# Altium schematic symbol library Schlib1.SchLib: 8 symbols
Pins are listed as number, name and electrical type; pins without a type are passive.

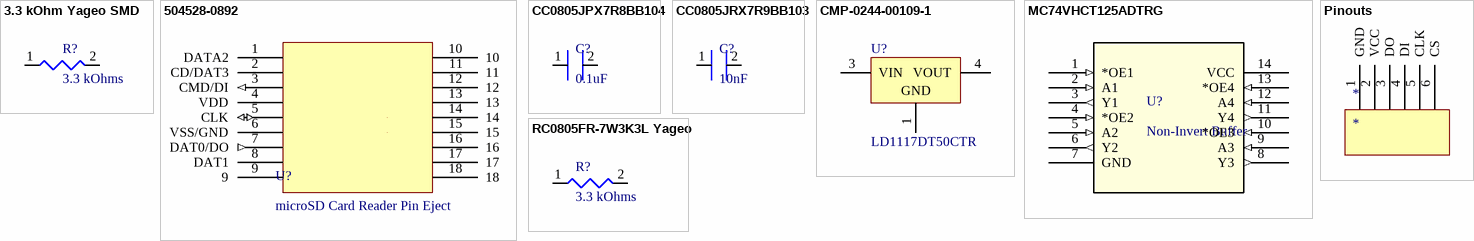
[diagram p0: symbols 3.3 kOhm Yageo SMD to RC0805FR-7W3K3L Yageo]

## 3.3 kOhm Yageo SMD
designator R?, comment 3.3 kOhms
3.3 kOhms ±1% 1W Chip Resistor 2512 (6432 Metric) Moisture Resistant Thick Film; Manufacturer: Yageo; Manufacturer Part Number: RC2512FK-073K3L; Value: 3.3kR; Voltage Rating: 200V; Temperature Coefficient: 100ppm/°C; Supplier 1: Digi-Key; RoHS: Yes; Category: Chip SMD Resistors; Stock 1: 6193; Pricing 1: 1=0.41000, 10=0.29400, 100=0.11740, 1000=0.05786 (USD); Case/Package: 2512; Case Code (Imperial): 2512; Case Code (Metric): 6432; Contact Plating: Tin,Lead; Min Operating Temperature: -55°C; Max Operating Temperature: 155°C; Tolerance: 1%; Power Rating: 1W; Packaging: Tape and Reel; Resistor Type: Thick Film; Number of Terminations: 2; Termination: SMD/SMT; Max Power Dissipation: 1W; Features: Moisture Resistant; Series: RC; Resistance Tolerance: 1%; Construction: Rectangular; Length: 0.25inch; Width: 3.1mm; Height: 0.026inch; Depth: 3.1mm; Radiation Hardening: No; Military Standard: Not; RoHS Compliant: Yes; ComponentLink1URL: https://datasheet.ciiva.com/7671/638316-7671990.pdf?src-supplier=Element14; ComponentLink1Description: https://datasheet.ciiva.com/7671/638316-7671990.pdf?src-supplier=Element14; ComponentLink2URL: https://datasheet.ciiva.com/7671/638316-7671991.pdf?src-supplier=Element14; ComponentLink2Description: https://datasheet.ciiva.com/7671/638316-7671991.pdf?src-supplier=Element14; ComponentLink3URL: https://datasheet.ciiva.com/12575/pyu-rc2512-51-rohs-l-4-12575433.pdf?src-supplier=Mouser; ComponentLink3Description: https://datasheet.ciiva.com/12575/pyu-rc2512-51-rohs-l-4-12575433.pdf?src-supplier=Mouser; Supplier Part Number 1: 13-RC2512FK-073K3LCT-ND
footprint 3.3 kOhm Yageo SMD
pins: 1, 2

## 504528-0892
designator U?, comment microSD Card Reader Pin Eject
Manufacturer: Molex; Manufacturer Part Number: 504528-0892-CUT-TAPE; Supplier: Newark; Supplier Part Number: 90AJ3843; RoHS: No; Pricing: 1=2.82, 10=2.58, 25=2.42, 50=2.26, 100=2.11, 250=1.92 (USD)
pins: 1 DATA2 "NC", 2 CD/DAT3 "CS", 3 CMD/DI (in) "DI", 4 VDD (power), 5 CLK (io) "SCLK", 6 VSS/GND (power), 7 DAT0/DO (out) "DO", 8 DAT1 "NC", 9 "Mounting", 10 "Mounting", 11 "Mounting", 12 "Mounting", 13 "Mounting", 14 "Mounting", 15 "Mounting", 16 "Mounting", 17 "Mounting", 18 "Mounting"

## CC0805JPX7R8BB104
designator C?, comment 0.1uF
Capacitor Multilayer Ceramic MLCC - SMD/SMT 25 V 0.1uF X7R 0805 5%; Manufacturer: Yageo; Manufacturer Part Number: CC0805JPX7R8BB104; Supplier 1: Mouser; RoHS: Yes; Category: Ceramic Capacitors; Stock 1: 164887; Pricing 1: 1=0.14000, 10=0.09400, 50=0.09400, 100=0.04800, 1000=0.02900, 10000=0.02300 (USD); RoHS Compliant: Yes; Supplier Part Number 1: 603-CC0805JPX7R8BB10
footprint CAPC2012X14N_1_35mm_HEIGHT (Chip Capacitor, 2-Leads, Body 2.00x1.25mm, IPC Medium Density)
pins: 1, 2

## CC0805JRX7R9BB103
designator C?, comment 10nF
Capacitor Multilayer Ceramic MLCC - SMD/SMT 50V 10nF X7R 0805 5%; Manufacturer: Yageo; Manufacturer Part Number: CC0805JRX7R9BB103; Dissipation Factor: 2.5%; Insulation Resistance: 10GR; Supplier 1: Mouser; RoHS: Yes; Category: Ceramic Capacitors; Stock 1: 102180; Pricing 1: 1=0.12000, 10=0.05000, 50=0.05000, 100=0.04100, 1000=0.02400, 10000=0.01700 (USD); Mounting Technology: Surface Mount; Case/Package: 0805; Pins: 2; Case Code (Imperial): 0805; Case Code (Metric): 2012; Min Operating Temperature: -55°C; Max Operating Temperature: 125°C; Voltage Rating (DC): 50V; Tolerance: 5%; Packaging: Tape and Reel; Value: 10nF; Voltage Rating: 50V; Package Quantity: 4000; Dielectric: X7R; Termination: SMD/SMT; Resistor Type: Ceramic; Series: CC; Construction: Flat; Length: 2mm; Width: 0.049inch; Height: 0.6mm; Thickness: 0.071inch; Depth: 1.25mm; Radiation Hardening: No; Lead Free: Lead Free; Halogen Free: Halogen Free; RoHS Compliant: Yes; ComponentLink1URL: https://datasheet.ciiva.com/26862/getdatasheetpartid-251801-26862952.pdf?src-supplier=Verical; ComponentLink1Description: https://datasheet.ciiva.com/26862/getdatasheetpartid-251801-26862952.pdf?src-supplier=Verical; ComponentLink2URL: https://datasheet.ciiva.com/11583/upy-gphc-x7r-6-3v-to-50v-8-11583532.pdf?src-supplier=Avnet; ComponentLink2Description: https://datasheet.ciiva.com/11583/upy-gphc-x7r-6-3v-to-50v-8-11583532.pdf?src-supplier=Avnet; ComponentLink3URL: https://datasheet.ciiva.com/13385/upy-gphc-x7r-6-3v-to-50v-8-13385902.pdf?src-supplier=Mouser; ComponentLink3Description: https://datasheet.ciiva.com/13385/upy-gphc-x7r-6-3v-to-50v-8-13385902.pdf?src-supplier=Mouser; Supplier Part Number 1: 603-CC805JRX7R9BB103
footprint CAPC2012X07N_06mmHEIGHT (Chip Capacitor, 2-Leads, Body 2.00x1.25mm, IPC Medium Density)
pins: 1, 2

## CMP-0244-00109-1
designator U?, comment LD1117DT50CTR
Fixed Low Drop Positive Voltage Regulator, 5V, 3-Pin DPAK, Tape and Reel; ComponentLink2URL: http://www.st.com/internet/com/TECHNICAL_RESOURCES/TECHNICAL_LITERATURE/DATASHEET/CD00000544.pdf; ComponentLink1URL: http://www.st.com; PackageReference: TO-252; DatasheetVersion: 1/11/2011; ComponentLink1Description: Manufacturer URL; PackageVersion: 2011; ComponentLink2Description: Datasheet; PackageDescription: 3-Pin Transistor Outline Package 2.28 mm Pitch, 9.7 mm Lead Span (DPAK)
footprint TO-252_M (D-PAK, 4-Leads, Body 6.1x6.5mm, Pitch 2.28mm, Lead Span 9.7mm, IPC Low Density)
footprint TO-252_N (D-PAK, 4-Leads, Body 6.1x6.5mm, Pitch 2.28mm, Lead Span 9.7mm, IPC Medium Density)
footprint TO-252_L (D-PAK, 4-Leads, Body 6.1x6.5mm, Pitch 2.28mm, Lead Span 9.7mm, IPC High Density)
pins: 1 GND (power), 3 VIN (power), 4 VOUT (power)

## MC74VHCT125ADTRG
designator U?, comment Non-Invert Buffer
Bus Driver, AHCT/VHCT Series, 4-Func, 1-Bit, True Output, CMOS, PDSO14; Manufacturer: ON Semiconductor; Manufacturer Part Number: MC74VHCT125ADTRG; Package Body Material: Plastic; Control Type: ENABLE LOW; Load Capacitance (CL): 50pF; Max I(ol): 8mA; Number of Bits: 1; Channels: 4; Number of Ports: 2; Output Characteristics: 3-STATE; Package Equivalence Code: TSSOP14,.25; Power Supplies: 5V; Power Supply Current-Max (ICC): 1.65mA; Prop. Delay@Nom-Sup: 10.5ns; Propagation Delay (tpd): 16ns; Max Supply Voltage: 5.5V; Min Supply Voltage: 4.5V; Time @ Peak Reflow Temperature-Max (s): 40s; Qualification Status: Not Qualified; Supplier: Digi-Key; Supplier Part Number: MC74VHCT125ADTRGOSCT-ND; RoHS: Yes; Category: Amplifiers - Op Amps, Buffer, Instrumentation; Stock: 452; Pricing: 1=0.63, 10=0.544, 25=0.5072, 100=0.3768, 250=0.31884, 500=0.30436, 1000=0.22465 (USD); Case/Package: TSSOP; Pins: 14; Package Shape: Rectangular; Terminal Finish: Nickel; Min Operating Temperature: -55°C; Max Operating Temperature: 125°C; JESD-609 Code: e4; Output Polarity: True; JESD-30 Code: R-PDSO-G14; Logic Type: BUS DRIVER; Moisture Sensitivity Level: 1; Package Style: SMALL OUTLINE, THIN PROFILE, SHRINK PITCHMeter; Packaging: Tape and Reel; Peak Reflow Temperature (Cel): 260°C; Nominal Supply Voltage: 5V; Surface Mount: Yes; Technology: CMOS; Terminal Form: Gull Wing; Terminal Position: DUAL; Length: 5mm; Width: 4.4mm; Height - Seated (Max): 1.2mm; Terminal Pitch: 0.65mm; Temperature Grade: MILITARY; Reach SVHC Compliant: Yes; RoHS Compliant: Yes; ComponentLink1URL: https://datasheet.ciiva.com:443/pdfs/VipMasterIC/IC/ONSM/ONSM-S-A0001342078/ONSM-S-A0001342078-1.pdf?src-supplier=IHS+Markit; ComponentLink1Description: https://datasheet.ciiva.com:443/pdfs/VipMasterIC/IC/ONSM/ONSM-S-A0001342078/ONSM-S-A0001342078-1.pdf?src-supplier=IHS+Markit; ComponentLink2URL: https://datasheet.ciiva.com/1834/mc74vhct125a-d-1834115.pdf?src-supplier=Digi-Key; ComponentLink2Description: https://datasheet.ciiva.com/1834/mc74vhct125a-d-1834115.pdf?src-supplier=Digi-Key; ComponentLink3URL: https://datasheet.ciiva.com/15094/getdatasheetpartid-37268-15094073.pdf?src-supplier=Verical; ComponentLink3Description: https://datasheet.ciiva.com/15094/getdatasheetpartid-37268-15094073.pdf?src-supplier=Verical; ComponentLink4URL: https://datasheet.ciiva.com/8260/mc74vhct125a-d-8260509.pdf?src-supplier=Avnet; ComponentLink4Description: https://datasheet.ciiva.com/8260/mc74vhct125a-d-8260509.pdf?src-supplier=Avnet; ComponentLink5URL: https://datasheet.ciiva.com/8305/mc74vhct125a-d-8305391.pdf?src-supplier=Avnet; ComponentLink5Description: https://datasheet.ciiva.com/8305/mc74vhct125a-d-8305391.pdf?src-supplier=Avnet; ComponentLink6URL: https://datasheet.ciiva.com/1834/mc74vhct125a-d-1834116.pdf?src-supplier=Digi-Key; ComponentLink6Description: https://datasheet.ciiva.com/1834/mc74vhct125a-d-1834116.pdf?src-supplier=Digi-Key; ComponentLink7URL: https://datasheet.ciiva.com/1834/mc74vhct125a-d-1834117.pdf?src-supplier=Digi-Key; ComponentLink7Description: https://datasheet.ciiva.com/1834/mc74vhct125a-d-1834117.pdf?src-supplier=Digi-Key
footprint TSSOP14_4P50X5P10_ONS
footprint TSSOP14_4P50X5P10_ONS-L
footprint TSSOP14_4P50X5P10_ONS-M
pins: 1 *OE1 (in), 2 A1 (in), 3 Y1 (out), 4 *OE2 (in), 5 A2 (in), 6 Y2 (out), 7 GND (power), 8 Y3 (out), 9 A3 (in), 10 *OE3 (in), 11 Y4 (out), 12 A4 (in), 13 *OE4 (in), 14 VCC (power)

## Pinouts
designator *
pins: 1 GND, 2 VCC, 3 DO, 4 DI, 5 CLK, 6 CS

## RC0805FR-7W3K3L Yageo
designator R?, comment 3.3 kOhms
3.3 kOhms ±1% 0.25W, 1/4W Chip Resistor 0805 (2012 Metric) Moisture Resistant Thick Film; Manufacturer: Yageo; Manufacturer Part Number: RC0805FR-7W3K3L; Supplier 1: Avnet; RoHS: Yes; Category: Chip SMD Resistors; Pricing 1: 5000=0.00430, 10000=0.00424, 20000=0.00411 (USD); Supplier Part Number 1: RC0805FR-7W3K3L
footprint RESC2012X06N (Chip Resistor, 2-Leads, Body 2.00x1.25mm, IPC Medium Density)
pins: 1, 2